# Altium footprint library Switches.PcbLib: 23 footprints (part 2 of 2)
Each footprint in its own frame and in the unit in brackets; x right, y up, seen from the top. Pads: shape width x height; smd on the part's side, far side on the other; paste and mask are expansions set on the pad; w line width, h text height; cw(c..) or ccw(c..) is an arc to the next point about the centre after c.
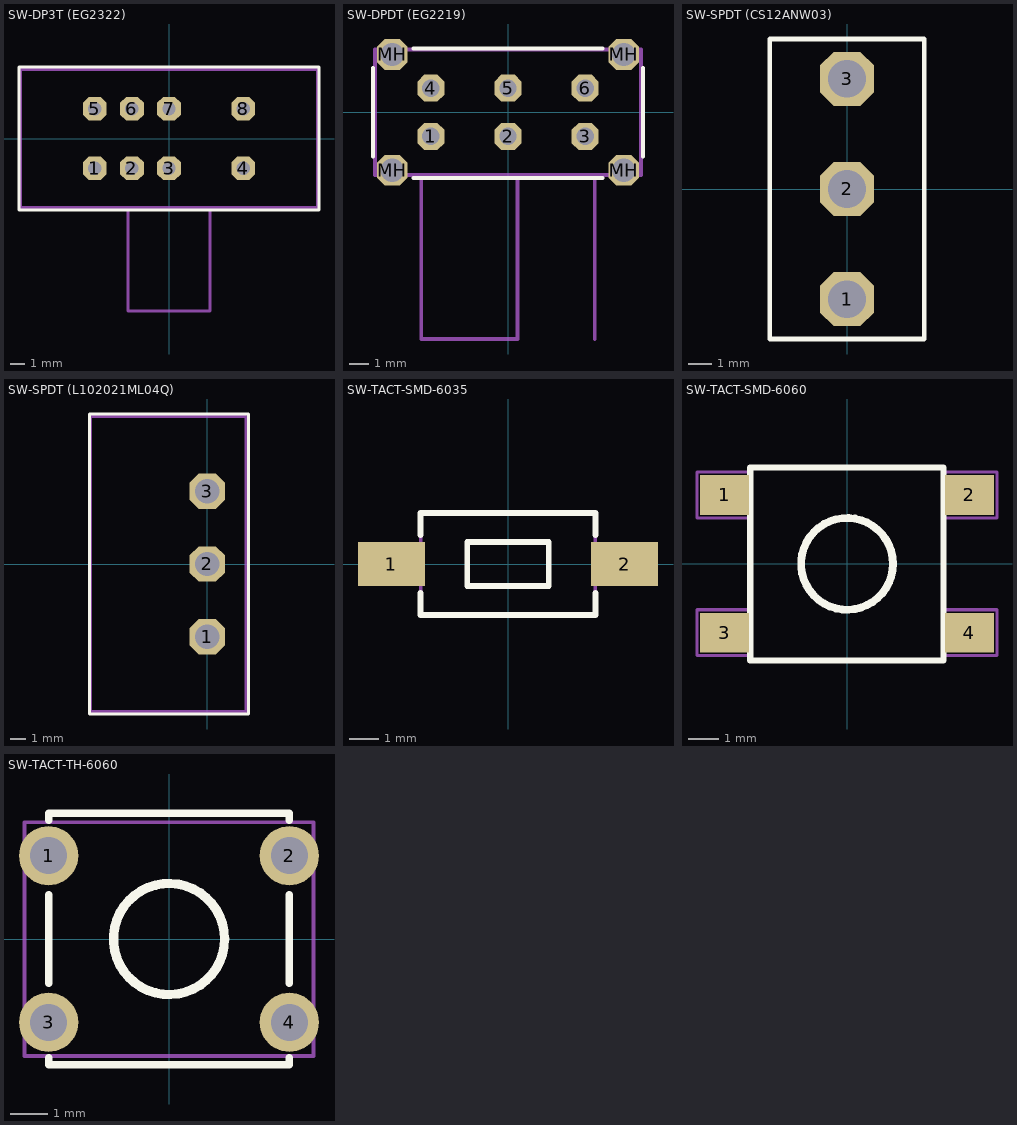
[diagram p1: the footprints below, top view; thin cyan lines are the x and y axes]

## SW-DP3T (EG2322) [mm] "E-Switch; DP3T Slide Switch; PCB Mount Right Angle"
height 10
pads (8):
  oct 1.6x1.6 hole 0.9: 1(-5,-2)
  oct 1.6x1.6 hole 0.9 unplated paste+0: 2(-2.5,-2) 3(0,-2) 4(5,-2) 5(-5,2) 6(-2.5,2) 7(0,2) 8(5,2)
Top Overlay:
  lines w0.2: -10.1,-4.8 -10.1,4.8 10.1,4.8 10.1,-4.8 -10.1,-4.8
Mechanical 13:
  lines w0.2: -2.75,-4.65 -2.75,-11.6 2.75,-11.6 2.75,-4.65 ; -10,-4.65 -10,4.65 10,4.65 10,-4.65 -10,-4.65
3D body: height 10, standoff 0, extent -10,-4.65 10,4.65
3D body: height 7.4, standoff 3.6, extent -2.75,-11.6 2.75,-4

## SW-DPDT (EG2219) [mm] "E-Switch; DPDT Slide Switch; PCB Mount Right Angle"
height 8.5
pads (10):
  oct 1.4x1.4 hole 0.9: 1(-4,-1.25)
  oct 1.4x1.4 hole 0.9 unplated paste+0: 2(0,-1.25) 3(4,-1.25) 4(-4,1.25) 5(0,1.25) 6(4,1.25)
  oct 1.6x1.6 hole 1.2: MH(-6,-3) MH(-6,3) MH(6,-3) MH(6,3)
Top Overlay:
  lines w0.2: -7,-2.3 -7,2.3 ; -4.9,-3.4 4.9,-3.4 ; -4.9,3.3 4.9,3.3 ; 7,-2.3 7,2.3
Mechanical 13:
  lines w0.2: -4.5,-3.25 -4.5,-11.75 0.5,-11.75 0.5,-3.25 ; 4.5,-11.75 4.5,-3.25 ; -6.9,-3.25 6.9,-3.25 6.9,3.25 -6.9,3.25 -6.9,-3.25
3D body: height 8.5, standoff 0, extent -6.9,-3.25 6.9,3.25
3D body: height 7.5, standoff 3.5, extent -4.5,-11.75 0.5,-3.1

## SW-SPDT (CS12ANW03) [mm] "NKK Switches; SPDT Slide Switch; PCB Mount; 3A 125V"
height 11.5
pads (3):
  oct 2.3x2.3 hole 1.6: 1(0,-4.7) 2(0,0) 3(0,4.7)
Top Overlay:
  lines w0.2: -3.3,-6.4 3.3,-6.4 3.3,6.4 -3.3,6.4 -3.3,-6.4

## SW-SPDT (L102021ML04Q) [mm] "C&K Switches; SPDT Slide Switch; PCB Mount Right Angle"
height 10.46
pads (3):
  oct 2.3x2.3 hole 1.6: 1(0,-4.75) 2(0,0) 3(0,4.75)
Top Overlay:
  lines w0.2: -7.7,-9.8 2.7,-9.8 2.7,9.8 -7.7,9.8 -7.7,-9.8
Mechanical 13:
  lines w0.2: -7.62,-9.65 -7.62,9.65 2.54,9.65 2.54,-9.65 -7.62,-9.65
3D body "l102021ml04.stp": height 10.52, standoff -3.91, extent -15.96,-9.654 4.36,9.65

## SW-TACT-SMD-6035 [mm] "Switch, SMD, 4 Leads, Body 6.0x3.5mm, Row Spacing 9.0mm"
height 4.3
pads (2):
  rect 2.3x1.5 smd: 1(-4,0) 2(4,0)
Top Overlay:
  lines w0.2: -3,-1 -3,-1.75 ; 3,1 3,1.75 ; -3,-1.75 -3,-1.75 ; -3,-1.75 3,-1.75 3,-1 ; -3,1 -3,1 ; -3,1 -3,1.75 3,1.75 ; 3,-1 3,-1 ; 3,1.75 3,1.75 ; -1.4,-0.75 1.4,-0.75 1.4,0.75 -1.4,0.75 -1.4,-0.75
Mechanical 13:
  lines w0.127: -3,-1.75 -3,1.75 3,1.75 3,-1.75 -3,-1.75
3D body "4341x10438x6.stp": height 4.3, standoff 0, extent -4,-1.75 4,1.75

## SW-TACT-SMD-6060 [mm] "Switch, SMD, 4 Leads, Body 6.0x6.0mm, Row Spacing 9.0mm, Pitch 4.5mm"
height 4.5
pads (4):
  rect 1.6x1.3 smd: 1(-4,2.25) 2(4,2.25) 3(-4,-2.25) 4(4,-2.25)
Top Overlay:
  circle w0.254: c0,0 r1.5
  lines w0.2: -3.16,-3.16 -3.16,3.15 3.15,3.15 3.15,-3.16 -3.16,-3.16
Mechanical 13:
  lines w0.1: -3.16,-2.921 -3.239,-3 -4.9,-3 -4.9,-1.5 -3.184,-1.5 -3.16,-1.524 ; -3.16,1.524 -3.184,1.5 -4.9,1.5 -4.9,3 -3.239,3 -3.16,2.921 ; 3.16,-3.16 3.16,3.15 ; 3.16,-2.921 3.239,-3 4.9,-3 4.9,-1.5 3.184,-1.5 3.16,-1.524 ; 3.16,1.524 3.184,1.5 4.9,1.5 4.9,3 3.239,3 3.16,2.921 ; -3.16,-3.16 3.15,-3.16 3.15,3.15 -3.16,3.15 -3.16,-3.16
3D body "Switch SPNO - DTSM-6.stp": height 4.5, standoff 0, extent -4.5,-3.1 4.5,3.1

## SW-TACT-TH-6060 [mm] "Switch, Through Hole, 4 Leads, Body 6.0x6.0mm, Row Spacing 9.0mm, Pitch 4.5mm"
height 4.5
pads (4):
  round 1.6 hole 1: 1(-3.25,2.25) 2(3.25,2.25) 3(-3.25,-2.25) 4(3.25,-2.25)
Top Overlay:
  circle w0.254: c0,0 r1.5
  lines w0.2: -3.25,-3.2 -3.25,-3.4 3.25,-3.4 3.25,-3.2 ; -3.25,-1.2 -3.25,1.2 ; -3.25,3.2 -3.25,3.4 3.25,3.4 3.25,3.2 ; 3.25,-1.2 3.25,1.2
Mechanical 13:
  lines w0.1: -3.9,-3.16 3.9,-3.16 3.9,3.15 -3.9,3.15 -3.9,-3.16
3D body "User Library-Tactile switch 6x6x5mm.step": height 5.06, standoff -3.46, extent -3.872,-3.015 3.871,3.015